# Altium footprint library 4D24-P4.PcbLib: 1 footprints
Each footprint in its own frame and in the unit in brackets; x right, y up, seen from the top. Pads: shape width x height; smd on the part's side, far side on the other; paste and mask are expansions set on the pad; w line width, h text height; cw(c..) or ccw(c..) is an arc to the next point about the centre after c.
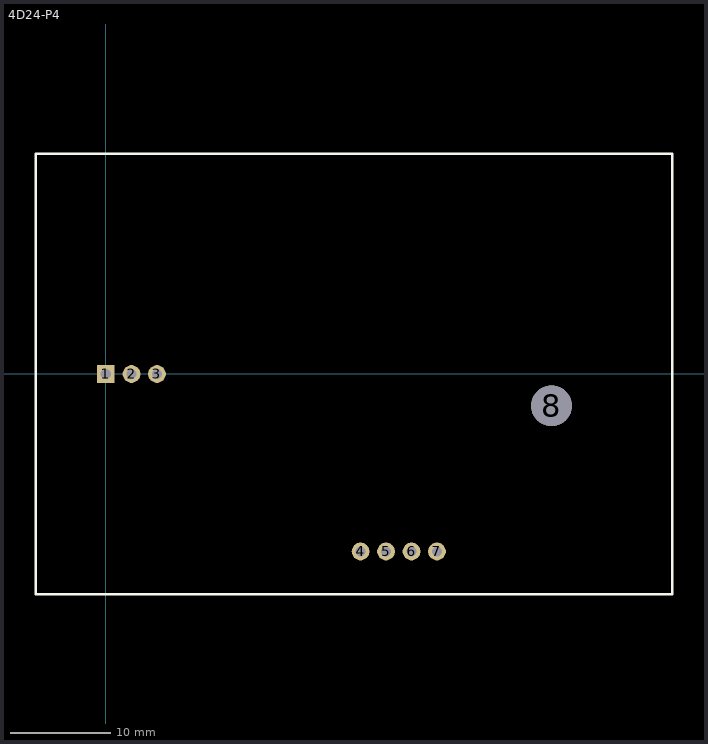
[diagram p0: the footprint, top view; thin cyan lines are the x and y axes]

## 4D24-P4 [mil]
pads (8):
  rect 70x70 hole 40: 1(0,0)
  round 70 hole 40: 2(101,0) 3(201,0) 4(1001,-697) 5(1101,-697) 6(1201,-697) 7(1301,-697)
  round 160 hole 160: 8(1751,-125)
Top Overlay:
  lines w10: -275,-865 -275,865 2225,865 2225,-865 -275,-865
3D body: height 511, standoff 0, extent -275,-865 2225,865